# EAGLE library part DISPLAY_SUBBOARD (library MSTFSAE-LED)
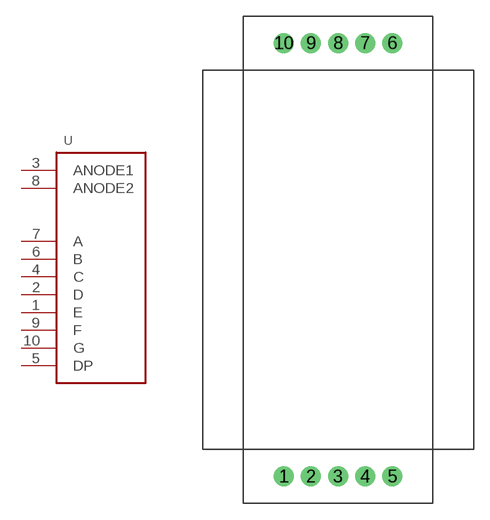
[diagram p0: symbol with the pads of DISPLAY_SUBBOARD; footprint DISPLAY_SUBBOARD]

Designator prefix -

## DISPLAY_SUBBOARD  [DISPLAY_SUBBOARD]
1  E
2  D
3  ANODE1
4  C
5  DP
6  B
7  A
8  ANODE2
9  F
10  G

## Footprint DISPLAY_SUBBOARD (pad centres in mm)
drill 1.016 pad 1.88: 1 -5.08,0; 2 -2.54,0; 3 0,0; 4 2.54,0; 5 5.08,0; 6 5.08,40.64; 7 2.54,40.64; 8 0,40.64; 9 -2.54,40.64; 10 -5.08,40.64